# Altium footprint library MIC24052YJL-TR.PcbLib: 1 footprints
Each footprint in its own frame and in the unit in brackets; x right, y up, seen from the top. Pads: shape width x height; smd on the part's side, far side on the other; paste and mask are expansions set on the pad; w line width, h text height; cw(c..) or ccw(c..) is an arc to the next point about the centre after c.
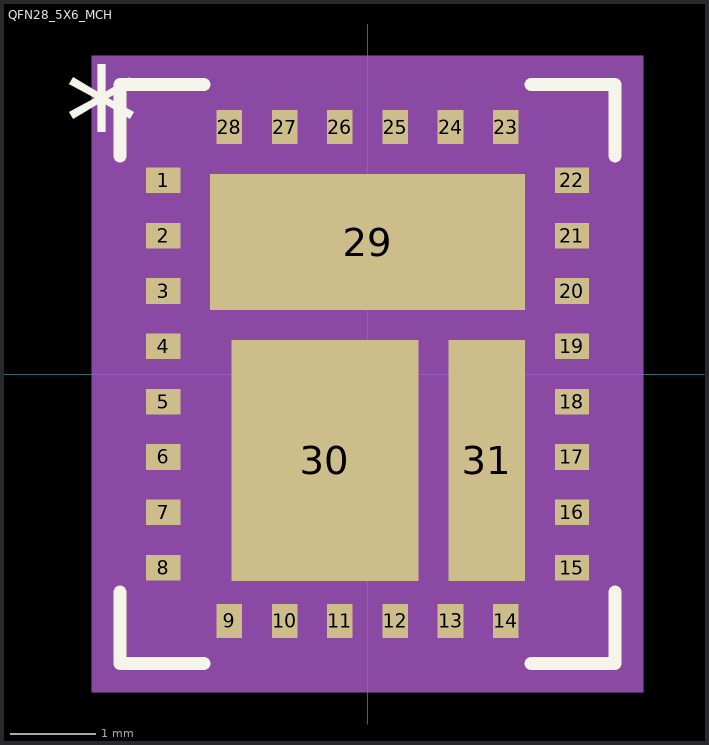
[diagram p0: the footprint, top view; thin cyan lines are the x and y axes]

## QFN28_5X6_MCH [mm]
pads (31):
  rect 0.4x0.3 smd paste-0.15 mask+0: 1(-2.4,2.275) 2(-2.4,1.625) 3(-2.4,0.975) 4(-2.4,0.325) 5(-2.4,-0.325) 6(-2.4,-0.975) 7(-2.4,-1.625) 8(-2.4,-2.275) 15(2.4,-2.275) 16(2.4,-1.625) 17(2.4,-0.975) 18(2.4,-0.325) 19(2.4,0.325) 20(2.4,0.975) 21(2.4,1.625) 22(2.4,2.275)
  rect 0.3x0.4 smd paste-0.15 mask+0: 9(-1.625,-2.9) 10(-0.975,-2.9) 11(-0.325,-2.9) 12(0.325,-2.9) 13(0.975,-2.9) 14(1.625,-2.9) 23(1.625,2.9) 24(0.975,2.9) 25(0.325,2.9) 26(-0.325,2.9) 27(-0.975,2.9) 28(-1.625,2.9)
  rect 3.7x1.6 smd paste-0.8 mask+0: 29(0,1.55)
  rect 2.2x2.83 smd paste+0 mask+0: 30(-0.5,-1.015)
  rect 0.9x2.83 smd: 31(1.4,-1.015)
Top Overlay:
  lines w0.152: -2.908,-2.56 -2.908,-3.404 -1.92,-3.404 ; -2.908,2.56 -2.908,3.404 -1.92,3.404 ; 1.92,-3.404 2.908,-3.404 2.908,-2.56 ; 1.92,3.404 2.908,3.404 2.908,2.56
  text "*" at -3.556,2.346 h1.27
Mechanical 5:
  region: 3.238,-3.738 -3.238,-3.738 -3.238,3.738 3.238,3.738
Mechanical 13:
  lines w0.025: -2.527,1.753 -1.257,3.023 ; -2.527,-3.023 2.527,-3.023 2.527,3.023 -2.527,3.023 -2.527,-3.023
  text "*" at -2.26,1.965 h1.27
Mechanical 15:
  region: -2.031,-3.277 -2.781,-3.277 -2.781,-2.681 -2.857,-2.681 -2.857,2.681 -2.781,2.681 -2.781,3.277 -2.031,3.277 -2.031,3.357 2.031,3.357 2.031,3.277 2.781,3.277 2.781,2.681 2.857,2.681 2.857,-2.681 2.781,-2.681 2.781,-3.277 2.031,-3.277 2.031,-3.357 -2.031,-3.357
  lines w0.152: -2.857,-2.681 -2.781,-2.681 -2.781,-3.277 -2.031,-3.277 -2.031,-3.357 2.031,-3.357 2.031,-3.277 2.781,-3.277 2.781,-2.681 2.857,-2.681 2.857,2.681 2.781,2.681 2.781,3.277 2.031,3.277 2.031,3.357 -2.031,3.357 -2.031,3.277 -2.781,3.277 -2.781,2.681 -2.857,2.681 -2.857,-2.681
3D body: height 0.25, standoff 0, extent 0,0 0.254,0.254